# EAGLE library part SP336EEY-L (library Exar_By_element14_Batch_1)
TRANSCEIVER
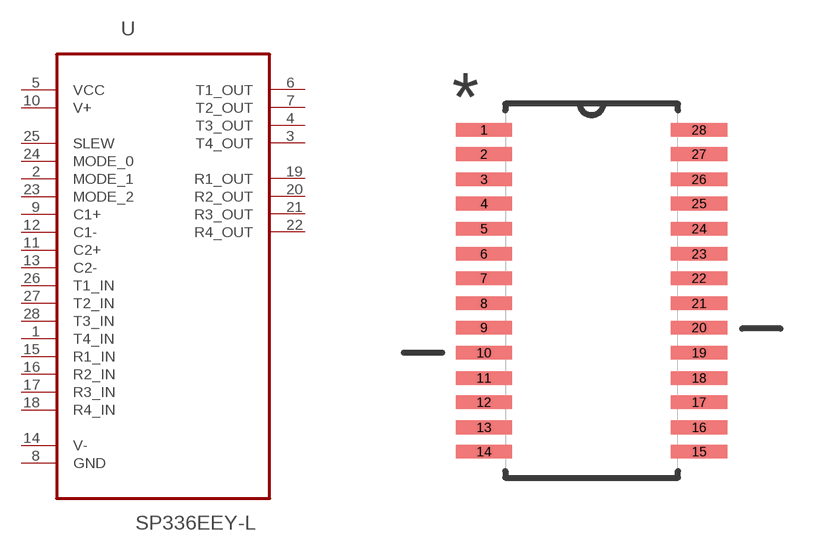
[diagram p39: symbol with the pads of SOP65P640X120-28N; footprint SOP65P640X120-28N]

Designator prefix U

## SP336EEY-L (MPN: SP336EEY-L; OC_FARNELL: 1821952; OC_NEWARK: 65R6128; PACKAGE: TSSOP-28; SUPPLIER: Exar)  [SOP65P640X120-28N]
1  T4_IN  in
2  MODE_1  in
3  T4_OUT  out
4  T3_OUT  out
5  VCC  pwr
6  T1_OUT  out
7  T2_OUT  out
8  GND  pas
9  C1+  pas
10  V+  pwr
11  C2+  pas
12  C1-  pas
13  C2-  pas
14  V-  pwr
15  R1_IN  in
16  R2_IN  in
17  R3_IN  in
18  R4_IN  in
19  R1_OUT  out
20  R2_OUT  out
21  R3_OUT  out
22  R4_OUT  out
23  MODE_2  in
24  MODE_0  in
25  SLEW  in
26  T1_IN  in
27  T2_IN  in
28  T3_IN  in

## Footprint SOP65P640X120-28N (pad centres in mm)
smd 1.473 x 0.356: 1 -2.819,4.216; 2 -2.819,3.581; 3 -2.819,2.921; 4 -2.819,2.286; 5 -2.819,1.626; 6 -2.819,0.965; 7 -2.819,0.33; 8 -2.819,-0.33; 9 -2.819,-0.965; 10 -2.819,-1.626; 11 -2.819,-2.286; 12 -2.819,-2.921; 13 -2.819,-3.581; 14 -2.819,-4.216; 15 2.819,-4.216; 16 2.819,-3.581; 17 2.819,-2.921; 18 2.819,-2.286; 19 2.819,-1.626; 20 2.819,-0.965; 21 2.819,-0.33; 22 2.819,0.33; 23 2.819,0.965; 24 2.819,1.626; 25 2.819,2.286; 26 2.819,2.921; 27 2.819,3.581; 28 2.819,4.216